# Altium integrated library Analog Devices Data Converters Digital-to-Analog Converters.IntLib: 2231 symbols (part 138 of 181)
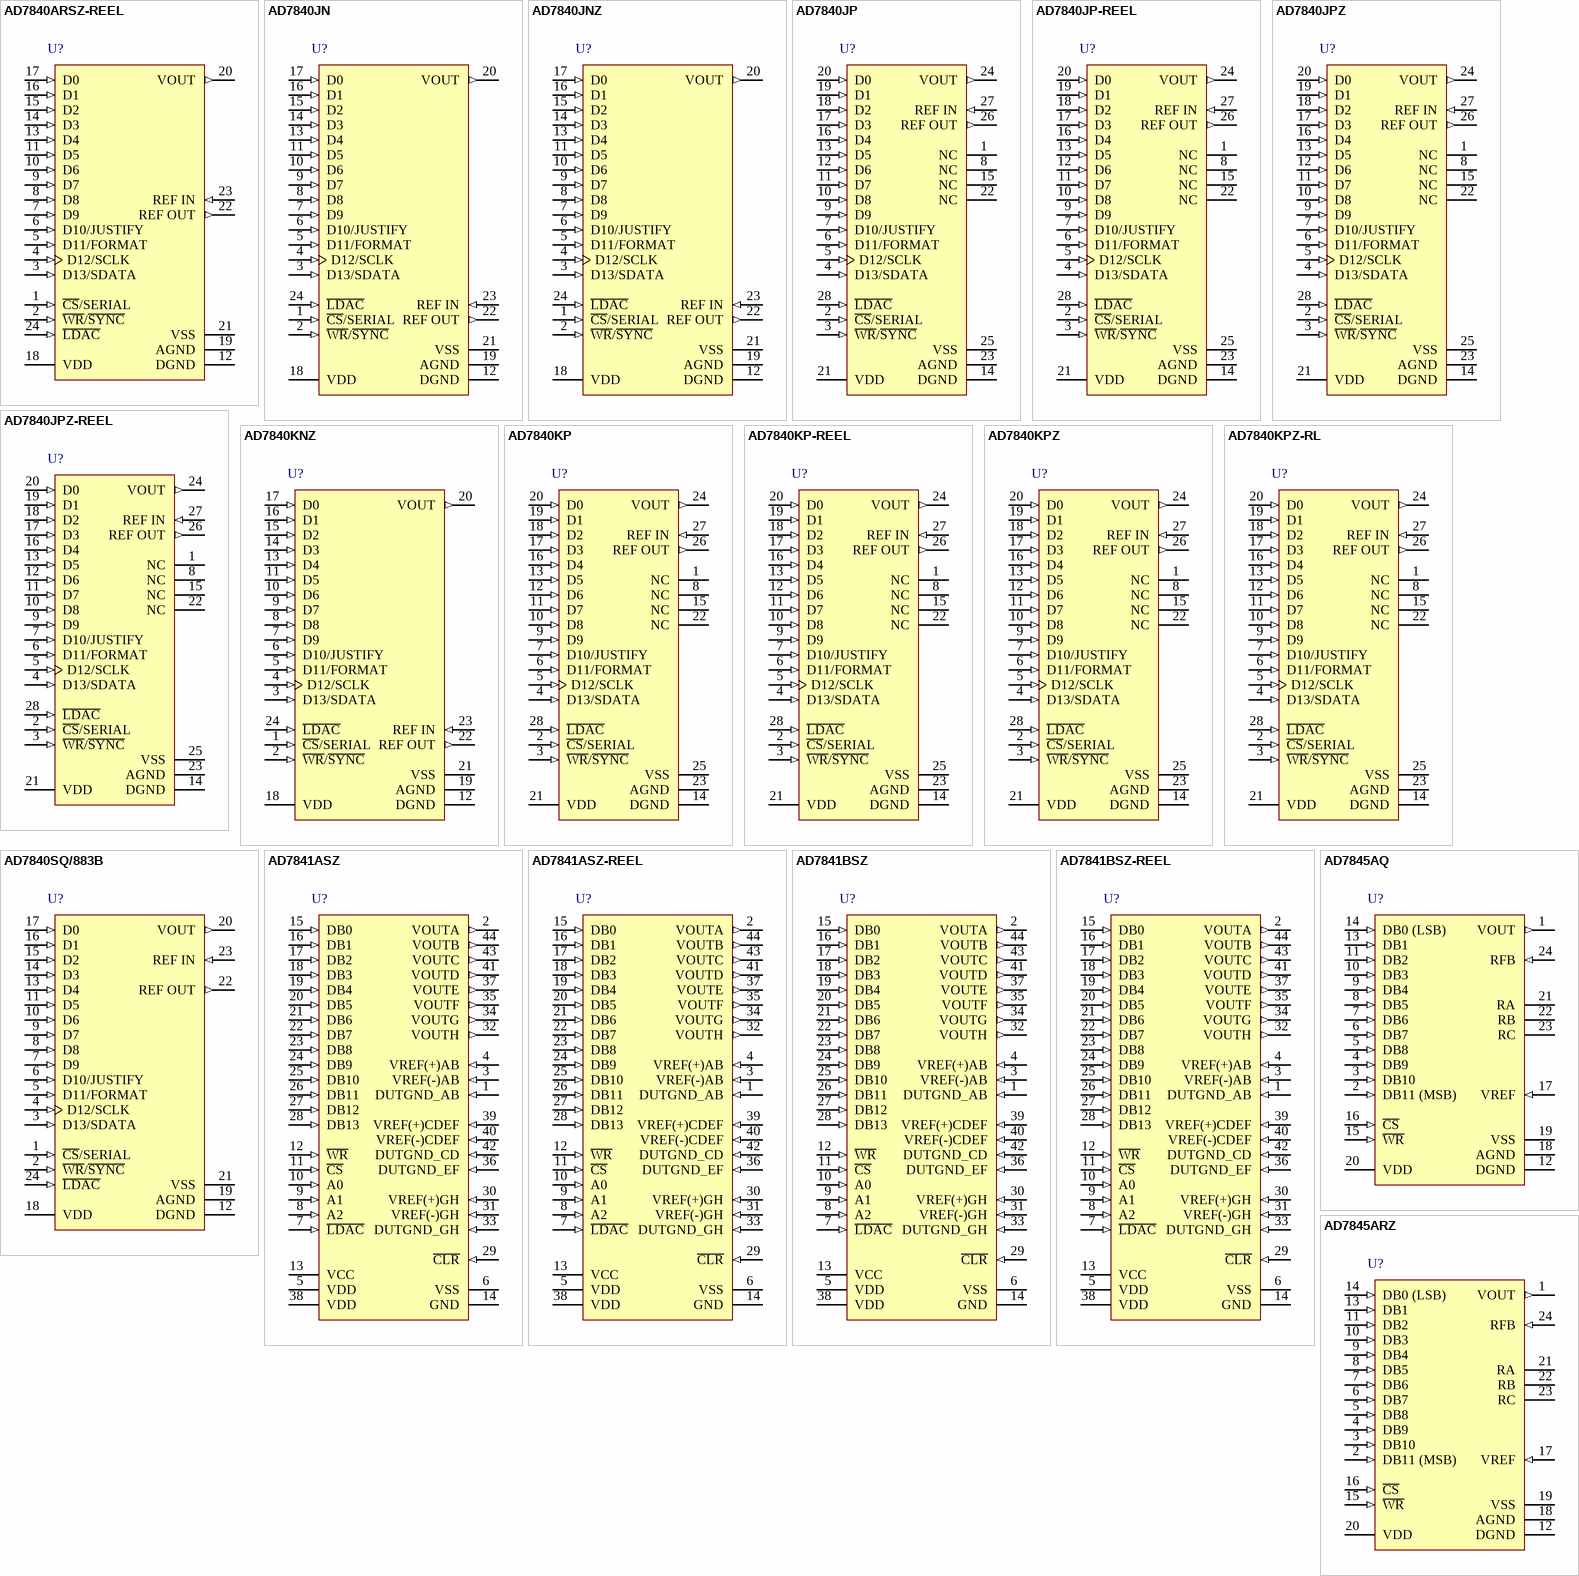
[diagram p251: symbols AD7840ARSZ-REEL to AD7845ARZ]

## AD7840JN
designator U?
Single 14-Bit LC2MOS Complete Digital-to-Analog Converter, 0 to +70 degC, N-24-1, Tube; Generic Part Number: AD7840; Manufacturer: Analog Devices; PartNumber: AD7840JN; # DAC Outputs: 1; Max V+: 5.25V; Op Pwr Diss: 110mW; Resolution (Bits): 14; Settling Time: 2.5µs; Single Supply: No; DatasheetVersion: Rev.B; PackageVersion: 071006-A; PackageReference: N-24-1; PackageDescription: 24-Lead Plastic Dual In-Line Package [PDIP] Narrow Body; Supplier 1: Digi-Key; Supplier Part Number 1: AD7840JN-ND; Supplier 2: Mouser; Supplier Part Number 2: 584-AD7840JN; Packing: Tube; RoHS: N; Mounting Technology: Through Hole; Code_JEDEC: MS-001; ComponentLink1Description: Manufacturer URL; ComponentLink1URL: http://www.analog.com/en/index.html; ComponentLink2Description: Datasheet; ComponentLink2URL: http://www.analog.com/static/imported-files/data_sheets/AD7840.pdf; ComponentLink3Description: Package Specification; ComponentLink3URL: http://www.analog.com/static/imported-files/packages/50726455539629N_24_1.pdf; ComponentLink4Description: Product URL; ComponentLink4URL: http://www.analog.com/en/digital-to-analog-converters/da-converters/ad7840/products/product.html
footprint N-24-1 (DIP, 24-Leads, Row Spacing 7.62mm, Pitch 2.54mm, Body 31.9x6.6mm)
pins: 1 ~{CS}/SERIAL (in) "Chip Select/Serial Input. When driven with normal logic levels, it is an active low logic input which is used in conjunction with W\R\ to load parallel data to the input latch. For applications where C\S\ is permanently low, (See Datasheet)", 2 ~{WR}/~{SYNC} (in) "Write/Frame Synchronization Input. In the parallel data mode, it is used in conjunction with C\S\ to load parallel data. In the serial mode of operation, this pin functions as a Frame Synchronization pulse with serial data (See Datasheet)", 3 D13/SDATA (in) "Data Bit 13(MSB)/Serial Data. When parallel data is selected, this pin is the D13 input. In serial mode, SDATA is the serial data input which is used in conjunction with S\Y\N\C\ and SCLK to transfer serial data to the (See Datasheet)", 4 D12/SCLK (in) "Data Bit 12/Serial Clock. When parallel data is selected, this pin is the D12 input. In the serial mode, it is the serial clock input. Serial data bits are latched on the falling edge of SCLK when S\Y\N\C\ is low.", 5 D11/FORMAT (in) "Data Bit 11/Data Format. When parallel data is selected, this pin is the D11 input. In serial mode, a Logic 1 on this input indicates that the MSB is the first valid bit in the serial data stream. A Logic 0 indicates that (See Datasheet)", 6 D10/JUSTIFY (in) "Data Bit 10/Data Justification. When parallel data is selected, this pin is the D10 input. In serial mode, this input controls the serial data justification (see Table I).", 7 D9 (in) "Data Bit 9. Parallel Data Input.", 8 D8 (in) "Data Bit 8. Parallel Data Input.", 9 D7 (in) "Data Bit 7. Parallel Data Input.", 10 D6 (in) "Data Bit 6. Parallel Data Input.", 11 D5 (in) "Data Bit 5. Parallel Data Input.", 12 DGND (power) "Digital Ground. Ground reference for digital circuitry.", 13 D4 (in) "Data Bit 4. Parallel Data Input.", 14 D3 (in) "Data Bit 3. Parallel Data Input.", 15 D2 (in) "Data Bit 2. Parallel Data Input.", 16 D1 (in) "Data Bit 1. Parallel Data Input.", 17 D0 (in) "Data Bit 0 (LSB). Parallel data input.", 18 VDD (power) "Positive Supply, +5 V +/- 5%.", 19 AGND (power) "Analog Ground. Ground reference for DAC, reference and output buffer amplifier.", 20 VOUT (out) "Analog Output Voltage. This is the buffer amplifier output voltage. Bipolar output range (+/-3 V with REF IN = +3 V).", 21 VSS (power) "Negative Supply Voltage, -5 V +/- 5%.", 22 REF OUT (out) "Voltage Reference Output. The internal 3 V analog reference is provided at this pin. To operate the AD7840 with internal reference, REF OUT should be connected to REF IN. The external load capability of the reference is 500 (See Datasheet)", 23 REF IN (in) "Voltage Reference Input. The reference voltage for the DAC is applied to this pin. It is internally buffered before being applied to the DAC. The nominal reference voltage for correct operation of the AD7840 is 3 V.", 24 ~{LDAC} (in) "Load DAC. Logic Input. A new word is loaded into the DAC latch from the input latch on the falling edge of this signal (see Interface Logic Information section). The AD7840 should be powered-up with L\D\A\C\ high. For (See Datasheet)"

## AD7840JNZ
designator U?
Single 14-Bit LC2MOS Complete Digital-to-Analog Converter, 0 to +70 degC, N-24-1, Pb-Free, Tube; Generic Part Number: AD7840; Manufacturer: Analog Devices; PartNumber: AD7840JNZ; # DAC Outputs: 1; Max V+: 5.25V; Op Pwr Diss: 110mW; Resolution (Bits): 14; Settling Time: 2.5µs; Single Supply: No; DatasheetVersion: Rev.B; PackageVersion: 071006-A; PackageReference: N-24-1; PackageDescription: 24-Lead Plastic Dual In-Line Package [PDIP] Narrow Body; Supplier 1: Digi-Key; Supplier Part Number 1: AD7840JNZ-ND; Supplier 2: Newark; Supplier Part Number 2: 59K5636; Supplier 3: Mouser; Supplier Part Number 3: 584-AD7840JNZ; Packing: Tube; RoHS: Y; Mounting Technology: Through Hole; Code_JEDEC: MS-001; ComponentLink1Description: Manufacturer URL; ComponentLink1URL: http://www.analog.com/en/index.html; ComponentLink2Description: Datasheet; ComponentLink2URL: http://www.analog.com/static/imported-files/data_sheets/AD7840.pdf; ComponentLink3Description: Package Specification; ComponentLink3URL: http://www.analog.com/static/imported-files/packages/50726455539629N_24_1.pdf; ComponentLink4Description: Product URL; ComponentLink4URL: http://www.analog.com/en/digital-to-analog-converters/da-converters/ad7840/products/product.html
footprint N-24-1 (DIP, 24-Leads, Row Spacing 7.62mm, Pitch 2.54mm, Body 31.9x6.6mm)
pins: 1 ~{CS}/SERIAL (in) "Chip Select/Serial Input. When driven with normal logic levels, it is an active low logic input which is used in conjunction with W\R\ to load parallel data to the input latch. For applications where C\S\ is permanently low, (See Datasheet)", 2 ~{WR}/~{SYNC} (in) "Write/Frame Synchronization Input. In the parallel data mode, it is used in conjunction with C\S\ to load parallel data. In the serial mode of operation, this pin functions as a Frame Synchronization pulse with serial data (See Datasheet)", 3 D13/SDATA (in) "Data Bit 13(MSB)/Serial Data. When parallel data is selected, this pin is the D13 input. In serial mode, SDATA is the serial data input which is used in conjunction with S\Y\N\C\ and SCLK to transfer serial data to the (See Datasheet)", 4 D12/SCLK (in) "Data Bit 12/Serial Clock. When parallel data is selected, this pin is the D12 input. In the serial mode, it is the serial clock input. Serial data bits are latched on the falling edge of SCLK when S\Y\N\C\ is low.", 5 D11/FORMAT (in) "Data Bit 11/Data Format. When parallel data is selected, this pin is the D11 input. In serial mode, a Logic 1 on this input indicates that the MSB is the first valid bit in the serial data stream. A Logic 0 indicates that (See Datasheet)", 6 D10/JUSTIFY (in) "Data Bit 10/Data Justification. When parallel data is selected, this pin is the D10 input. In serial mode, this input controls the serial data justification (see Table I).", 7 D9 (in) "Data Bit 9. Parallel Data Input.", 8 D8 (in) "Data Bit 8. Parallel Data Input.", 9 D7 (in) "Data Bit 7. Parallel Data Input.", 10 D6 (in) "Data Bit 6. Parallel Data Input.", 11 D5 (in) "Data Bit 5. Parallel Data Input.", 12 DGND (power) "Digital Ground. Ground reference for digital circuitry.", 13 D4 (in) "Data Bit 4. Parallel Data Input.", 14 D3 (in) "Data Bit 3. Parallel Data Input.", 15 D2 (in) "Data Bit 2. Parallel Data Input.", 16 D1 (in) "Data Bit 1. Parallel Data Input.", 17 D0 (in) "Data Bit 0 (LSB). Parallel data input.", 18 VDD (power) "Positive Supply, +5 V +/- 5%.", 19 AGND (power) "Analog Ground. Ground reference for DAC, reference and output buffer amplifier.", 20 VOUT (out) "Analog Output Voltage. This is the buffer amplifier output voltage. Bipolar output range (+/-3 V with REF IN = +3 V).", 21 VSS (power) "Negative Supply Voltage, -5 V +/- 5%.", 22 REF OUT (out) "Voltage Reference Output. The internal 3 V analog reference is provided at this pin. To operate the AD7840 with internal reference, REF OUT should be connected to REF IN. The external load capability of the reference is 500 (See Datasheet)", 23 REF IN (in) "Voltage Reference Input. The reference voltage for the DAC is applied to this pin. It is internally buffered before being applied to the DAC. The nominal reference voltage for correct operation of the AD7840 is 3 V.", 24 ~{LDAC} (in) "Load DAC. Logic Input. A new word is loaded into the DAC latch from the input latch on the falling edge of this signal (see Interface Logic Information section). The AD7840 should be powered-up with L\D\A\C\ high. For (See Datasheet)"

## AD7840JP
designator U?
Single 14-Bit LC2MOS Complete Digital-to-Analog Converter, 0 to +70 degC, P-28, Tube; Generic Part Number: AD7840; Manufacturer: Analog Devices; PartNumber: AD7840JP; # DAC Outputs: 1; Max V+: 5.25V; Op Pwr Diss: 110mW; Resolution (Bits): 14; Settling Time: 2.5µs; Single Supply: No; DatasheetVersion: Rev.B; PackageVersion: 042508-A; PackageReference: P-28; PackageDescription: 28-Lead Plastic Leaded Chip Carrier [PLCC]; Supplier 1: Digi-Key; Supplier Part Number 1: AD7840JP-ND; Supplier 2: Mouser; Supplier Part Number 2: 584-AD7840JP; Packing: Tube; RoHS: N; Mounting Technology: Surface Mount; Code_JEDEC: MO-047-AB; ComponentLink1Description: Manufacturer URL; ComponentLink1URL: http://www.analog.com/en/index.html; ComponentLink2Description: Datasheet; ComponentLink2URL: http://www.analog.com/static/imported-files/data_sheets/AD7840.pdf; ComponentLink3Description: Package Specification; ComponentLink3URL: http://www.analog.com/static/imported-files/packages/PKG_PDF/PLCC(P)/P_28.pdf; ComponentLink4Description: Product URL; ComponentLink4URL: http://www.analog.com/en/digital-to-analog-converters/da-converters/ad7840/products/product.html
footprint P-28_N (Leaded Chip Carrier, 28-Leads, Body 11.5x11.5mm, Pitch 1.27mm, IPC Medium Density)
footprint P-28_L (Leaded Chip Carrier, 28-Leads, Body 11.5x11.5mm, Pitch 1.27mm, IPC High Density)
footprint P-28_M (Leaded Chip Carrier, 28-Leads, Body 11.5x11.5mm, Pitch 1.27mm, IPC Low Density)
pins: 1 NC "No Connect.", 2 ~{CS}/SERIAL (in) "Chip Select/Serial Input. When driven with normal logic levels, it is an active low logic input which is used in conjunction with W\R\ to load parallel data to the input latch. For applications where C\S\ is permanently low, (See Datasheet)", 3 ~{WR}/~{SYNC} (in) "Write/Frame Synchronization Input. In the parallel data mode, it is used in conjunction with C\S\ to load parallel data. In the serial mode of operation, this pin functions as a Frame Synchronization pulse with serial data (See Datasheet)", 4 D13/SDATA (in) "Data Bit 13(MSB)/Serial Data. When parallel data is selected, this pin is the D13 input. In serial mode, SDATA is the serial data input which is used in conjunction with S\Y\N\C\ and SCLK to transfer serial data to the (See Datasheet)", 5 D12/SCLK (in) "Data Bit 12/Serial Clock. When parallel data is selected, this pin is the D12 input. In the serial mode, it is the serial clock input. Serial data bits are latched on the falling edge of SCLK when S\Y\N\C\ is low", 6 D11/FORMAT (in) "Data Bit 11/Data Format. When parallel data is selected, this pin is the D11 input. In serial mode, a Logic 1 on this input indicates that the MSB is the first valid bit in the serial data stream. A Logic 0 indicates that (See Datasheet)", 7 D10/JUSTIFY (in) "Data Bit 10/Data Justification. When parallel data is selected, this pin is the D10 input. In serial mode, this input controls the serial data justification (see Table I).", 8 NC "No Connect.", 9 D9 (in) "Data Bit 9. Parallel data input.", 10 D8 (in) "Data Bit 8. Parallel data input.", 11 D7 (in) "Data Bit 7. Parallel data input.", 12 D6 (in) "Data Bit 6. Parallel data input.", 13 D5 (in) "Data Bit 5. Parallel data input.", 14 DGND (power) "Digital Ground. Ground reference for digital circuitry.", 15 NC "No Connect.", 16 D4 (in) "Data Bit 4. Parallel data input.", 17 D3 (in) "Data Bit 3. Parallel data input.", 18 D2 (in) "Data Bit 2. Parallel data input.", 19 D1 (in) "Data Bit 1. Parallel data input.", 20 D0 (in) "Data Bit 0 (LSB). Parallel data input.", 21 VDD (power) "Positive Supply, +5 V +/- 5%.", 22 NC "No Connect.", 23 AGND (power) "Analog Ground. Ground reference for DAC, reference and output buffer amplifier.", 24 VOUT (out) "Analog Output Voltage. This is the buffer amplifier output voltage. Bipolar output range (+/-3 V with REF IN = +3 V).", 25 VSS (power) "Negative Supply Voltage, -5 V +/- 5%.", 26 REF OUT (out) "Voltage Reference Output. The internal 3 V analog reference is provided at this pin. To operate the AD7840 with internal reference, REF OUT should be connected to REF IN. The external load capability of the reference is 500 (See Datasheet)", 27 REF IN (in) "Voltage Reference Input. The reference voltage for the DAC is applied to this pin. It is internally buffered before being applied to the DAC. The nominal reference voltage for correct operation of the AD7840 is 3 V.", 28 ~{LDAC} (in) "Load DAC. Logic Input. A new word is loaded into the DAC latch from the input latch on the falling edge of this signal (see Interface Logic Information section). The AD7840 should be powered-up with L\D\A\C\ high. For (See Datasheet)"

## AD7840JP-REEL
designator U?
Single 14-Bit LC2MOS Complete Digital-to-Analog Converter, 0 to +70 degC, P-28, Reel; Generic Part Number: AD7840; Manufacturer: Analog Devices; PartNumber: AD7840JP-REEL; # DAC Outputs: 1; Max V+: 5.25V; Op Pwr Diss: 110mW; Resolution (Bits): 14; Settling Time: 2.5µs; Single Supply: No; DatasheetVersion: Rev.B; PackageVersion: 042508-A; PackageReference: P-28; PackageDescription: 28-Lead Plastic Leaded Chip Carrier [PLCC]; Supplier 1: Mouser; Supplier Part Number 1: N/A; Packing: Reel; RoHS: N; Mounting Technology: Surface Mount; Code_JEDEC: MO-047-AB; ComponentLink1Description: Manufacturer URL; ComponentLink1URL: http://www.analog.com/en/index.html; ComponentLink2Description: Datasheet; ComponentLink2URL: http://www.analog.com/static/imported-files/data_sheets/AD7840.pdf; ComponentLink3Description: Package Specification; ComponentLink3URL: http://www.analog.com/static/imported-files/packages/PKG_PDF/PLCC(P)/P_28.pdf; ComponentLink4Description: Product URL; ComponentLink4URL: http://www.analog.com/en/digital-to-analog-converters/da-converters/ad7840/products/product.html
footprint P-28_N (Leaded Chip Carrier, 28-Leads, Body 11.5x11.5mm, Pitch 1.27mm, IPC Medium Density)
footprint P-28_L (Leaded Chip Carrier, 28-Leads, Body 11.5x11.5mm, Pitch 1.27mm, IPC High Density)
footprint P-28_M (Leaded Chip Carrier, 28-Leads, Body 11.5x11.5mm, Pitch 1.27mm, IPC Low Density)
pins: 1 NC "No Connect.", 2 ~{CS}/SERIAL (in) "Chip Select/Serial Input. When driven with normal logic levels, it is an active low logic input which is used in conjunction with W\R\ to load parallel data to the input latch. For applications where C\S\ is permanently low, (See Datasheet)", 3 ~{WR}/~{SYNC} (in) "Write/Frame Synchronization Input. In the parallel data mode, it is used in conjunction with C\S\ to load parallel data. In the serial mode of operation, this pin functions as a Frame Synchronization pulse with serial data (See Datasheet)", 4 D13/SDATA (in) "Data Bit 13(MSB)/Serial Data. When parallel data is selected, this pin is the D13 input. In serial mode, SDATA is the serial data input which is used in conjunction with S\Y\N\C\ and SCLK to transfer serial data to the (See Datasheet)", 5 D12/SCLK (in) "Data Bit 12/Serial Clock. When parallel data is selected, this pin is the D12 input. In the serial mode, it is the serial clock input. Serial data bits are latched on the falling edge of SCLK when S\Y\N\C\ is low", 6 D11/FORMAT (in) "Data Bit 11/Data Format. When parallel data is selected, this pin is the D11 input. In serial mode, a Logic 1 on this input indicates that the MSB is the first valid bit in the serial data stream. A Logic 0 indicates that (See Datasheet)", 7 D10/JUSTIFY (in) "Data Bit 10/Data Justification. When parallel data is selected, this pin is the D10 input. In serial mode, this input controls the serial data justification (see Table I).", 8 NC "No Connect.", 9 D9 (in) "Data Bit 9. Parallel data input.", 10 D8 (in) "Data Bit 8. Parallel data input.", 11 D7 (in) "Data Bit 7. Parallel data input.", 12 D6 (in) "Data Bit 6. Parallel data input.", 13 D5 (in) "Data Bit 5. Parallel data input.", 14 DGND (power) "Digital Ground. Ground reference for digital circuitry.", 15 NC "No Connect.", 16 D4 (in) "Data Bit 4. Parallel data input.", 17 D3 (in) "Data Bit 3. Parallel data input.", 18 D2 (in) "Data Bit 2. Parallel data input.", 19 D1 (in) "Data Bit 1. Parallel data input.", 20 D0 (in) "Data Bit 0 (LSB). Parallel data input.", 21 VDD (power) "Positive Supply, +5 V +/- 5%.", 22 NC "No Connect.", 23 AGND (power) "Analog Ground. Ground reference for DAC, reference and output buffer amplifier.", 24 VOUT (out) "Analog Output Voltage. This is the buffer amplifier output voltage. Bipolar output range (+/-3 V with REF IN = +3 V).", 25 VSS (power) "Negative Supply Voltage, -5 V +/- 5%.", 26 REF OUT (out) "Voltage Reference Output. The internal 3 V analog reference is provided at this pin. To operate the AD7840 with internal reference, REF OUT should be connected to REF IN. The external load capability of the reference is 500 (See Datasheet)", 27 REF IN (in) "Voltage Reference Input. The reference voltage for the DAC is applied to this pin. It is internally buffered before being applied to the DAC. The nominal reference voltage for correct operation of the AD7840 is 3 V.", 28 ~{LDAC} (in) "Load DAC. Logic Input. A new word is loaded into the DAC latch from the input latch on the falling edge of this signal (see Interface Logic Information section). The AD7840 should be powered-up with L\D\A\C\ high. For (See Datasheet)"

## AD7840JPZ
designator U?
Single 14-Bit LC2MOS Complete Digital-to-Analog Converter, 0 to +70 degC, P-28, Pb-Free, Tube; Generic Part Number: AD7840; Manufacturer: Analog Devices; PartNumber: AD7840JPZ; # DAC Outputs: 1; Max V+: 5.25V; Op Pwr Diss: 110mW; Resolution (Bits): 14; Settling Time: 2.5µs; Single Supply: No; DatasheetVersion: Rev.B; PackageVersion: 042508-A; PackageReference: P-28; PackageDescription: 28-Lead Plastic Leaded Chip Carrier [PLCC]; Supplier 1: Digi-Key; Supplier Part Number 1: AD7840JPZ-ND; Supplier 2: Newark; Supplier Part Number 2: 96K2105; Supplier 3: Mouser; Supplier Part Number 3: 584-AD7840JPZ; Packing: Tube; RoHS: Y; Mounting Technology: Surface Mount; Code_JEDEC: MO-047-AB; ComponentLink1Description: Manufacturer URL; ComponentLink1URL: http://www.analog.com/en/index.html; ComponentLink2Description: Datasheet; ComponentLink2URL: http://www.analog.com/static/imported-files/data_sheets/AD7840.pdf; ComponentLink3Description: Package Specification; ComponentLink3URL: http://www.analog.com/static/imported-files/packages/PKG_PDF/PLCC(P)/P_28.pdf; ComponentLink4Description: Product URL; ComponentLink4URL: http://www.analog.com/en/digital-to-analog-converters/da-converters/ad7840/products/product.html
footprint P-28_N (Leaded Chip Carrier, 28-Leads, Body 11.5x11.5mm, Pitch 1.27mm, IPC Medium Density)
footprint P-28_L (Leaded Chip Carrier, 28-Leads, Body 11.5x11.5mm, Pitch 1.27mm, IPC High Density)
footprint P-28_M (Leaded Chip Carrier, 28-Leads, Body 11.5x11.5mm, Pitch 1.27mm, IPC Low Density)
pins: 1 NC "No Connect.", 2 ~{CS}/SERIAL (in) "Chip Select/Serial Input. When driven with normal logic levels, it is an active low logic input which is used in conjunction with W\R\ to load parallel data to the input latch. For applications where C\S\ is permanently low, (See Datasheet)", 3 ~{WR}/~{SYNC} (in) "Write/Frame Synchronization Input. In the parallel data mode, it is used in conjunction with C\S\ to load parallel data. In the serial mode of operation, this pin functions as a Frame Synchronization pulse with serial data (See Datasheet)", 4 D13/SDATA (in) "Data Bit 13(MSB)/Serial Data. When parallel data is selected, this pin is the D13 input. In serial mode, SDATA is the serial data input which is used in conjunction with S\Y\N\C\ and SCLK to transfer serial data to the (See Datasheet)", 5 D12/SCLK (in) "Data Bit 12/Serial Clock. When parallel data is selected, this pin is the D12 input. In the serial mode, it is the serial clock input. Serial data bits are latched on the falling edge of SCLK when S\Y\N\C\ is low", 6 D11/FORMAT (in) "Data Bit 11/Data Format. When parallel data is selected, this pin is the D11 input. In serial mode, a Logic 1 on this input indicates that the MSB is the first valid bit in the serial data stream. A Logic 0 indicates that (See Datasheet)", 7 D10/JUSTIFY (in) "Data Bit 10/Data Justification. When parallel data is selected, this pin is the D10 input. In serial mode, this input controls the serial data justification (see Table I).", 8 NC "No Connect.", 9 D9 (in) "Data Bit 9. Parallel data input.", 10 D8 (in) "Data Bit 8. Parallel data input.", 11 D7 (in) "Data Bit 7. Parallel data input.", 12 D6 (in) "Data Bit 6. Parallel data input.", 13 D5 (in) "Data Bit 5. Parallel data input.", 14 DGND (power) "Digital Ground. Ground reference for digital circuitry.", 15 NC "No Connect.", 16 D4 (in) "Data Bit 4. Parallel data input.", 17 D3 (in) "Data Bit 3. Parallel data input.", 18 D2 (in) "Data Bit 2. Parallel data input.", 19 D1 (in) "Data Bit 1. Parallel data input.", 20 D0 (in) "Data Bit 0 (LSB). Parallel data input.", 21 VDD (power) "Positive Supply, +5 V +/- 5%.", 22 NC "No Connect.", 23 AGND (power) "Analog Ground. Ground reference for DAC, reference and output buffer amplifier.", 24 VOUT (out) "Analog Output Voltage. This is the buffer amplifier output voltage. Bipolar output range (+/-3 V with REF IN = +3 V).", 25 VSS (power) "Negative Supply Voltage, -5 V +/- 5%.", 26 REF OUT (out) "Voltage Reference Output. The internal 3 V analog reference is provided at this pin. To operate the AD7840 with internal reference, REF OUT should be connected to REF IN. The external load capability of the reference is 500 (See Datasheet)", 27 REF IN (in) "Voltage Reference Input. The reference voltage for the DAC is applied to this pin. It is internally buffered before being applied to the DAC. The nominal reference voltage for correct operation of the AD7840 is 3 V.", 28 ~{LDAC} (in) "Load DAC. Logic Input. A new word is loaded into the DAC latch from the input latch on the falling edge of this signal (see Interface Logic Information section). The AD7840 should be powered-up with L\D\A\C\ high. For (See Datasheet)"

## AD7840JPZ-REEL
designator U?
Single 14-Bit LC2MOS Complete Digital-to-Analog Converter, 0 to +70 degC, P-28, Pb-Free, Reel; Generic Part Number: AD7840; Manufacturer: Analog Devices; PartNumber: AD7840JPZ-REEL; # DAC Outputs: 1; Max V+: 5.25V; Op Pwr Diss: 110mW; Resolution (Bits): 14; Settling Time: 2.5µs; Single Supply: No; DatasheetVersion: Rev.B; PackageVersion: 042508-A; PackageReference: P-28; PackageDescription: 28-Lead Plastic Leaded Chip Carrier [PLCC]; Supplier 1: Digi-Key; Supplier Part Number 1: AD7840JPZ-REEL-ND; Supplier 2: Mouser; Supplier Part Number 2: 584-AD7840JPZ-R; Packing: Reel; RoHS: Y; Mounting Technology: Surface Mount; Code_JEDEC: MO-047-AB; ComponentLink1Description: Manufacturer URL; ComponentLink1URL: http://www.analog.com/en/index.html; ComponentLink2Description: Datasheet; ComponentLink2URL: http://www.analog.com/static/imported-files/data_sheets/AD7840.pdf; ComponentLink3Description: Package Specification; ComponentLink3URL: http://www.analog.com/static/imported-files/packages/PKG_PDF/PLCC(P)/P_28.pdf; ComponentLink4Description: Product URL; ComponentLink4URL: http://www.analog.com/en/digital-to-analog-converters/da-converters/ad7840/products/product.html
footprint P-28_N (Leaded Chip Carrier, 28-Leads, Body 11.5x11.5mm, Pitch 1.27mm, IPC Medium Density)
footprint P-28_L (Leaded Chip Carrier, 28-Leads, Body 11.5x11.5mm, Pitch 1.27mm, IPC High Density)
footprint P-28_M (Leaded Chip Carrier, 28-Leads, Body 11.5x11.5mm, Pitch 1.27mm, IPC Low Density)
pins: 1 NC "No Connect.", 2 ~{CS}/SERIAL (in) "Chip Select/Serial Input. When driven with normal logic levels, it is an active low logic input which is used in conjunction with W\R\ to load parallel data to the input latch. For applications where C\S\ is permanently low, (See Datasheet)", 3 ~{WR}/~{SYNC} (in) "Write/Frame Synchronization Input. In the parallel data mode, it is used in conjunction with C\S\ to load parallel data. In the serial mode of operation, this pin functions as a Frame Synchronization pulse with serial data (See Datasheet)", 4 D13/SDATA (in) "Data Bit 13(MSB)/Serial Data. When parallel data is selected, this pin is the D13 input. In serial mode, SDATA is the serial data input which is used in conjunction with S\Y\N\C\ and SCLK to transfer serial data to the (See Datasheet)", 5 D12/SCLK (in) "Data Bit 12/Serial Clock. When parallel data is selected, this pin is the D12 input. In the serial mode, it is the serial clock input. Serial data bits are latched on the falling edge of SCLK when S\Y\N\C\ is low", 6 D11/FORMAT (in) "Data Bit 11/Data Format. When parallel data is selected, this pin is the D11 input. In serial mode, a Logic 1 on this input indicates that the MSB is the first valid bit in the serial data stream. A Logic 0 indicates that (See Datasheet)", 7 D10/JUSTIFY (in) "Data Bit 10/Data Justification. When parallel data is selected, this pin is the D10 input. In serial mode, this input controls the serial data justification (see Table I).", 8 NC "No Connect.", 9 D9 (in) "Data Bit 9. Parallel data input.", 10 D8 (in) "Data Bit 8. Parallel data input.", 11 D7 (in) "Data Bit 7. Parallel data input.", 12 D6 (in) "Data Bit 6. Parallel data input.", 13 D5 (in) "Data Bit 5. Parallel data input.", 14 DGND (power) "Digital Ground. Ground reference for digital circuitry.", 15 NC "No Connect.", 16 D4 (in) "Data Bit 4. Parallel data input.", 17 D3 (in) "Data Bit 3. Parallel data input.", 18 D2 (in) "Data Bit 2. Parallel data input.", 19 D1 (in) "Data Bit 1. Parallel data input.", 20 D0 (in) "Data Bit 0 (LSB). Parallel data input.", 21 VDD (power) "Positive Supply, +5 V +/- 5%.", 22 NC "No Connect.", 23 AGND (power) "Analog Ground. Ground reference for DAC, reference and output buffer amplifier.", 24 VOUT (out) "Analog Output Voltage. This is the buffer amplifier output voltage. Bipolar output range (+/-3 V with REF IN = +3 V).", 25 VSS (power) "Negative Supply Voltage, -5 V +/- 5%.", 26 REF OUT (out) "Voltage Reference Output. The internal 3 V analog reference is provided at this pin. To operate the AD7840 with internal reference, REF OUT should be connected to REF IN. The external load capability of the reference is 500 (See Datasheet)", 27 REF IN (in) "Voltage Reference Input. The reference voltage for the DAC is applied to this pin. It is internally buffered before being applied to the DAC. The nominal reference voltage for correct operation of the AD7840 is 3 V.", 28 ~{LDAC} (in) "Load DAC. Logic Input. A new word is loaded into the DAC latch from the input latch on the falling edge of this signal (see Interface Logic Information section). The AD7840 should be powered-up with L\D\A\C\ high. For (See Datasheet)"

## AD7840KNZ
designator U?
Single 14-Bit LC2MOS Complete Digital-to-Analog Converter, 0 to +70 degC, N-24-1, Pb-Free, Tube; Generic Part Number: AD7840; Manufacturer: Analog Devices; PartNumber: AD7840KNZ; # DAC Outputs: 1; Max V+: 5.25V; Op Pwr Diss: 110mW; Resolution (Bits): 14; Settling Time: 2.5µs; Single Supply: No; DatasheetVersion: Rev.B; PackageVersion: 071006-A; PackageReference: N-24-1; PackageDescription: 24-Lead Plastic Dual In-Line Package [PDIP] Narrow Body; Supplier 1: Digi-Key; Supplier Part Number 1: AD7840KNZ-ND; Supplier 2: Mouser; Supplier Part Number 2: 584-AD7840KNZ; Packing: Tube; RoHS: Y; Mounting Technology: Through Hole; Code_JEDEC: MS-001; ComponentLink1Description: Manufacturer URL; ComponentLink1URL: http://www.analog.com/en/index.html; ComponentLink2Description: Datasheet; ComponentLink2URL: http://www.analog.com/static/imported-files/data_sheets/AD7840.pdf; ComponentLink3Description: Package Specification; ComponentLink3URL: http://www.analog.com/static/imported-files/packages/50726455539629N_24_1.pdf; ComponentLink4Description: Product URL; ComponentLink4URL: http://www.analog.com/en/digital-to-analog-converters/da-converters/ad7840/products/product.html
footprint N-24-1 (DIP, 24-Leads, Row Spacing 7.62mm, Pitch 2.54mm, Body 31.9x6.6mm)
pins: 1 ~{CS}/SERIAL (in) "Chip Select/Serial Input. When driven with normal logic levels, it is an active low logic input which is used in conjunction with W\R\ to load parallel data to the input latch. For applications where C\S\ is permanently low, (See Datasheet)", 2 ~{WR}/~{SYNC} (in) "Write/Frame Synchronization Input. In the parallel data mode, it is used in conjunction with C\S\ to load parallel data. In the serial mode of operation, this pin functions as a Frame Synchronization pulse with serial data (See Datasheet)", 3 D13/SDATA (in) "Data Bit 13(MSB)/Serial Data. When parallel data is selected, this pin is the D13 input. In serial mode, SDATA is the serial data input which is used in conjunction with S\Y\N\C\ and SCLK to transfer serial data to the (See Datasheet)", 4 D12/SCLK (in) "Data Bit 12/Serial Clock. When parallel data is selected, this pin is the D12 input. In the serial mode, it is the serial clock input. Serial data bits are latched on the falling edge of SCLK when S\Y\N\C\ is low.", 5 D11/FORMAT (in) "Data Bit 11/Data Format. When parallel data is selected, this pin is the D11 input. In serial mode, a Logic 1 on this input indicates that the MSB is the first valid bit in the serial data stream. A Logic 0 indicates that (See Datasheet)", 6 D10/JUSTIFY (in) "Data Bit 10/Data Justification. When parallel data is selected, this pin is the D10 input. In serial mode, this input controls the serial data justification (see Table I).", 7 D9 (in) "Data Bit 9. Parallel Data Input.", 8 D8 (in) "Data Bit 8. Parallel Data Input.", 9 D7 (in) "Data Bit 7. Parallel Data Input.", 10 D6 (in) "Data Bit 6. Parallel Data Input.", 11 D5 (in) "Data Bit 5. Parallel Data Input.", 12 DGND (power) "Digital Ground. Ground reference for digital circuitry.", 13 D4 (in) "Data Bit 4. Parallel Data Input.", 14 D3 (in) "Data Bit 3. Parallel Data Input.", 15 D2 (in) "Data Bit 2. Parallel Data Input.", 16 D1 (in) "Data Bit 1. Parallel Data Input.", 17 D0 (in) "Data Bit 0 (LSB). Parallel data input.", 18 VDD (power) "Positive Supply, +5 V +/- 5%.", 19 AGND (power) "Analog Ground. Ground reference for DAC, reference and output buffer amplifier.", 20 VOUT (out) "Analog Output Voltage. This is the buffer amplifier output voltage. Bipolar output range (+/-3 V with REF IN = +3 V).", 21 VSS (power) "Negative Supply Voltage, -5 V +/- 5%.", 22 REF OUT (out) "Voltage Reference Output. The internal 3 V analog reference is provided at this pin. To operate the AD7840 with internal reference, REF OUT should be connected to REF IN. The external load capability of the reference is 500 (See Datasheet)", 23 REF IN (in) "Voltage Reference Input. The reference voltage for the DAC is applied to this pin. It is internally buffered before being applied to the DAC. The nominal reference voltage for correct operation of the AD7840 is 3 V.", 24 ~{LDAC} (in) "Load DAC. Logic Input. A new word is loaded into the DAC latch from the input latch on the falling edge of this signal (see Interface Logic Information section). The AD7840 should be powered-up with L\D\A\C\ high. For (See Datasheet)"

## AD7840KP
designator U?
Single 14-Bit LC2MOS Complete Digital-to-Analog Converter, 0 to +70 degC, P-28, Tube; Generic Part Number: AD7840; Manufacturer: Analog Devices; PartNumber: AD7840KP; # DAC Outputs: 1; Max V+: 5.25V; Op Pwr Diss: 110mW; Resolution (Bits): 14; Settling Time: 2.5µs; Single Supply: No; DatasheetVersion: Rev.B; PackageVersion: 042508-A; PackageReference: P-28; PackageDescription: 28-Lead Plastic Leaded Chip Carrier [PLCC]; Supplier 1: Digi-Key; Supplier Part Number 1: AD7840KP-ND; Supplier 2: Mouser; Supplier Part Number 2: 584-AD7840KP; Packing: Tube; RoHS: N; Mounting Technology: Surface Mount; Code_JEDEC: MO-047-AB; ComponentLink1Description: Manufacturer URL; ComponentLink1URL: http://www.analog.com/en/index.html; ComponentLink2Description: Datasheet; ComponentLink2URL: http://www.analog.com/static/imported-files/data_sheets/AD7840.pdf; ComponentLink3Description: Package Specification; ComponentLink3URL: http://www.analog.com/static/imported-files/packages/PKG_PDF/PLCC(P)/P_28.pdf; ComponentLink4Description: Product URL; ComponentLink4URL: http://www.analog.com/en/digital-to-analog-converters/da-converters/ad7840/products/product.html
footprint P-28_N (Leaded Chip Carrier, 28-Leads, Body 11.5x11.5mm, Pitch 1.27mm, IPC Medium Density)
footprint P-28_L (Leaded Chip Carrier, 28-Leads, Body 11.5x11.5mm, Pitch 1.27mm, IPC High Density)
footprint P-28_M (Leaded Chip Carrier, 28-Leads, Body 11.5x11.5mm, Pitch 1.27mm, IPC Low Density)
pins: 1 NC "No Connect.", 2 ~{CS}/SERIAL (in) "Chip Select/Serial Input. When driven with normal logic levels, it is an active low logic input which is used in conjunction with W\R\ to load parallel data to the input latch. For applications where C\S\ is permanently low, (See Datasheet)", 3 ~{WR}/~{SYNC} (in) "Write/Frame Synchronization Input. In the parallel data mode, it is used in conjunction with C\S\ to load parallel data. In the serial mode of operation, this pin functions as a Frame Synchronization pulse with serial data (See Datasheet)", 4 D13/SDATA (in) "Data Bit 13(MSB)/Serial Data. When parallel data is selected, this pin is the D13 input. In serial mode, SDATA is the serial data input which is used in conjunction with S\Y\N\C\ and SCLK to transfer serial data to the (See Datasheet)", 5 D12/SCLK (in) "Data Bit 12/Serial Clock. When parallel data is selected, this pin is the D12 input. In the serial mode, it is the serial clock input. Serial data bits are latched on the falling edge of SCLK when S\Y\N\C\ is low", 6 D11/FORMAT (in) "Data Bit 11/Data Format. When parallel data is selected, this pin is the D11 input. In serial mode, a Logic 1 on this input indicates that the MSB is the first valid bit in the serial data stream. A Logic 0 indicates that (See Datasheet)", 7 D10/JUSTIFY (in) "Data Bit 10/Data Justification. When parallel data is selected, this pin is the D10 input. In serial mode, this input controls the serial data justification (see Table I).", 8 NC "No Connect.", 9 D9 (in) "Data Bit 9. Parallel data input.", 10 D8 (in) "Data Bit 8. Parallel data input.", 11 D7 (in) "Data Bit 7. Parallel data input.", 12 D6 (in) "Data Bit 6. Parallel data input.", 13 D5 (in) "Data Bit 5. Parallel data input.", 14 DGND (power) "Digital Ground. Ground reference for digital circuitry.", 15 NC "No Connect.", 16 D4 (in) "Data Bit 4. Parallel data input.", 17 D3 (in) "Data Bit 3. Parallel data input.", 18 D2 (in) "Data Bit 2. Parallel data input.", 19 D1 (in) "Data Bit 1. Parallel data input.", 20 D0 (in) "Data Bit 0 (LSB). Parallel data input.", 21 VDD (power) "Positive Supply, +5 V +/- 5%.", 22 NC "No Connect.", 23 AGND (power) "Analog Ground. Ground reference for DAC, reference and output buffer amplifier.", 24 VOUT (out) "Analog Output Voltage. This is the buffer amplifier output voltage. Bipolar output range (+/-3 V with REF IN = +3 V).", 25 VSS (power) "Negative Supply Voltage, -5 V +/- 5%.", 26 REF OUT (out) "Voltage Reference Output. The internal 3 V analog reference is provided at this pin. To operate the AD7840 with internal reference, REF OUT should be connected to REF IN. The external load capability of the reference is 500 (See Datasheet)", 27 REF IN (in) "Voltage Reference Input. The reference voltage for the DAC is applied to this pin. It is internally buffered before being applied to the DAC. The nominal reference voltage for correct operation of the AD7840 is 3 V.", 28 ~{LDAC} (in) "Load DAC. Logic Input. A new word is loaded into the DAC latch from the input latch on the falling edge of this signal (see Interface Logic Information section). The AD7840 should be powered-up with L\D\A\C\ high. For (See Datasheet)"

## AD7840KP-REEL
designator U?
Single 14-Bit LC2MOS Complete Digital-to-Analog Converter, 0 to +70 degC, P-28, Reel; Generic Part Number: AD7840; Manufacturer: Analog Devices; PartNumber: AD7840KP-REEL; # DAC Outputs: 1; Max V+: 5.25V; Op Pwr Diss: 110mW; Resolution (Bits): 14; Settling Time: 2.5µs; Single Supply: No; DatasheetVersion: Rev.B; PackageVersion: 042508-A; PackageReference: P-28; PackageDescription: 28-Lead Plastic Leaded Chip Carrier [PLCC]; Supplier 1: Mouser; Supplier Part Number 1: N/A; Packing: Reel; RoHS: N; Mounting Technology: Surface Mount; Code_JEDEC: MO-047-AB; ComponentLink1Description: Manufacturer URL; ComponentLink1URL: http://www.analog.com/en/index.html; ComponentLink2Description: Datasheet; ComponentLink2URL: http://www.analog.com/static/imported-files/data_sheets/AD7840.pdf; ComponentLink3Description: Package Specification; ComponentLink3URL: http://www.analog.com/static/imported-files/packages/PKG_PDF/PLCC(P)/P_28.pdf; ComponentLink4Description: Product URL; ComponentLink4URL: http://www.analog.com/en/digital-to-analog-converters/da-converters/ad7840/products/product.html
footprint P-28_N (Leaded Chip Carrier, 28-Leads, Body 11.5x11.5mm, Pitch 1.27mm, IPC Medium Density)
footprint P-28_L (Leaded Chip Carrier, 28-Leads, Body 11.5x11.5mm, Pitch 1.27mm, IPC High Density)
footprint P-28_M (Leaded Chip Carrier, 28-Leads, Body 11.5x11.5mm, Pitch 1.27mm, IPC Low Density)
pins: 1 NC "No Connect.", 2 ~{CS}/SERIAL (in) "Chip Select/Serial Input. When driven with normal logic levels, it is an active low logic input which is used in conjunction with W\R\ to load parallel data to the input latch. For applications where C\S\ is permanently low, (See Datasheet)", 3 ~{WR}/~{SYNC} (in) "Write/Frame Synchronization Input. In the parallel data mode, it is used in conjunction with C\S\ to load parallel data. In the serial mode of operation, this pin functions as a Frame Synchronization pulse with serial data (See Datasheet)", 4 D13/SDATA (in) "Data Bit 13(MSB)/Serial Data. When parallel data is selected, this pin is the D13 input. In serial mode, SDATA is the serial data input which is used in conjunction with S\Y\N\C\ and SCLK to transfer serial data to the (See Datasheet)", 5 D12/SCLK (in) "Data Bit 12/Serial Clock. When parallel data is selected, this pin is the D12 input. In the serial mode, it is the serial clock input. Serial data bits are latched on the falling edge of SCLK when S\Y\N\C\ is low", 6 D11/FORMAT (in) "Data Bit 11/Data Format. When parallel data is selected, this pin is the D11 input. In serial mode, a Logic 1 on this input indicates that the MSB is the first valid bit in the serial data stream. A Logic 0 indicates that (See Datasheet)", 7 D10/JUSTIFY (in) "Data Bit 10/Data Justification. When parallel data is selected, this pin is the D10 input. In serial mode, this input controls the serial data justification (see Table I).", 8 NC "No Connect.", 9 D9 (in) "Data Bit 9. Parallel data input.", 10 D8 (in) "Data Bit 8. Parallel data input.", 11 D7 (in) "Data Bit 7. Parallel data input.", 12 D6 (in) "Data Bit 6. Parallel data input.", 13 D5 (in) "Data Bit 5. Parallel data input.", 14 DGND (power) "Digital Ground. Ground reference for digital circuitry.", 15 NC "No Connect.", 16 D4 (in) "Data Bit 4. Parallel data input.", 17 D3 (in) "Data Bit 3. Parallel data input.", 18 D2 (in) "Data Bit 2. Parallel data input.", 19 D1 (in) "Data Bit 1. Parallel data input.", 20 D0 (in) "Data Bit 0 (LSB). Parallel data input.", 21 VDD (power) "Positive Supply, +5 V +/- 5%.", 22 NC "No Connect.", 23 AGND (power) "Analog Ground. Ground reference for DAC, reference and output buffer amplifier.", 24 VOUT (out) "Analog Output Voltage. This is the buffer amplifier output voltage. Bipolar output range (+/-3 V with REF IN = +3 V).", 25 VSS (power) "Negative Supply Voltage, -5 V +/- 5%.", 26 REF OUT (out) "Voltage Reference Output. The internal 3 V analog reference is provided at this pin. To operate the AD7840 with internal reference, REF OUT should be connected to REF IN. The external load capability of the reference is 500 (See Datasheet)", 27 REF IN (in) "Voltage Reference Input. The reference voltage for the DAC is applied to this pin. It is internally buffered before being applied to the DAC. The nominal reference voltage for correct operation of the AD7840 is 3 V.", 28 ~{LDAC} (in) "Load DAC. Logic Input. A new word is loaded into the DAC latch from the input latch on the falling edge of this signal (see Interface Logic Information section). The AD7840 should be powered-up with L\D\A\C\ high. For (See Datasheet)"

## AD7840KPZ
designator U?
Single 14-Bit LC2MOS Complete Digital-to-Analog Converter, 0 to +70 degC, P-28, Pb-Free, Tube; Generic Part Number: AD7840; Manufacturer: Analog Devices; PartNumber: AD7840KPZ; # DAC Outputs: 1; Max V+: 5.25V; Op Pwr Diss: 110mW; Resolution (Bits): 14; Settling Time: 2.5µs; Single Supply: No; DatasheetVersion: Rev.B; PackageVersion: 042508-A; PackageReference: P-28; PackageDescription: 28-Lead Plastic Leaded Chip Carrier [PLCC]; Supplier 1: Digi-Key; Supplier Part Number 1: AD7840KPZ-ND; Supplier 2: Mouser; Supplier Part Number 2: 584-AD7840KPZ; Packing: Tube; RoHS: Y; Mounting Technology: Surface Mount; Code_JEDEC: MO-047-AB; ComponentLink1Description: Manufacturer URL; ComponentLink1URL: http://www.analog.com/en/index.html; ComponentLink2Description: Datasheet; ComponentLink2URL: http://www.analog.com/static/imported-files/data_sheets/AD7840.pdf; ComponentLink3Description: Package Specification; ComponentLink3URL: http://www.analog.com/static/imported-files/packages/PKG_PDF/PLCC(P)/P_28.pdf; ComponentLink4Description: Product URL; ComponentLink4URL: http://www.analog.com/en/digital-to-analog-converters/da-converters/ad7840/products/product.html
footprint P-28_N (Leaded Chip Carrier, 28-Leads, Body 11.5x11.5mm, Pitch 1.27mm, IPC Medium Density)
footprint P-28_L (Leaded Chip Carrier, 28-Leads, Body 11.5x11.5mm, Pitch 1.27mm, IPC High Density)
footprint P-28_M (Leaded Chip Carrier, 28-Leads, Body 11.5x11.5mm, Pitch 1.27mm, IPC Low Density)
pins: 1 NC "No Connect.", 2 ~{CS}/SERIAL (in) "Chip Select/Serial Input. When driven with normal logic levels, it is an active low logic input which is used in conjunction with W\R\ to load parallel data to the input latch. For applications where C\S\ is permanently low, (See Datasheet)", 3 ~{WR}/~{SYNC} (in) "Write/Frame Synchronization Input. In the parallel data mode, it is used in conjunction with C\S\ to load parallel data. In the serial mode of operation, this pin functions as a Frame Synchronization pulse with serial data (See Datasheet)", 4 D13/SDATA (in) "Data Bit 13(MSB)/Serial Data. When parallel data is selected, this pin is the D13 input. In serial mode, SDATA is the serial data input which is used in conjunction with S\Y\N\C\ and SCLK to transfer serial data to the (See Datasheet)", 5 D12/SCLK (in) "Data Bit 12/Serial Clock. When parallel data is selected, this pin is the D12 input. In the serial mode, it is the serial clock input. Serial data bits are latched on the falling edge of SCLK when S\Y\N\C\ is low", 6 D11/FORMAT (in) "Data Bit 11/Data Format. When parallel data is selected, this pin is the D11 input. In serial mode, a Logic 1 on this input indicates that the MSB is the first valid bit in the serial data stream. A Logic 0 indicates that (See Datasheet)", 7 D10/JUSTIFY (in) "Data Bit 10/Data Justification. When parallel data is selected, this pin is the D10 input. In serial mode, this input controls the serial data justification (see Table I).", 8 NC "No Connect.", 9 D9 (in) "Data Bit 9. Parallel data input.", 10 D8 (in) "Data Bit 8. Parallel data input.", 11 D7 (in) "Data Bit 7. Parallel data input.", 12 D6 (in) "Data Bit 6. Parallel data input.", 13 D5 (in) "Data Bit 5. Parallel data input.", 14 DGND (power) "Digital Ground. Ground reference for digital circuitry.", 15 NC "No Connect.", 16 D4 (in) "Data Bit 4. Parallel data input.", 17 D3 (in) "Data Bit 3. Parallel data input.", 18 D2 (in) "Data Bit 2. Parallel data input.", 19 D1 (in) "Data Bit 1. Parallel data input.", 20 D0 (in) "Data Bit 0 (LSB). Parallel data input.", 21 VDD (power) "Positive Supply, +5 V +/- 5%.", 22 NC "No Connect.", 23 AGND (power) "Analog Ground. Ground reference for DAC, reference and output buffer amplifier.", 24 VOUT (out) "Analog Output Voltage. This is the buffer amplifier output voltage. Bipolar output range (+/-3 V with REF IN = +3 V).", 25 VSS (power) "Negative Supply Voltage, -5 V +/- 5%.", 26 REF OUT (out) "Voltage Reference Output. The internal 3 V analog reference is provided at this pin. To operate the AD7840 with internal reference, REF OUT should be connected to REF IN. The external load capability of the reference is 500 (See Datasheet)", 27 REF IN (in) "Voltage Reference Input. The reference voltage for the DAC is applied to this pin. It is internally buffered before being applied to the DAC. The nominal reference voltage for correct operation of the AD7840 is 3 V.", 28 ~{LDAC} (in) "Load DAC. Logic Input. A new word is loaded into the DAC latch from the input latch on the falling edge of this signal (see Interface Logic Information section). The AD7840 should be powered-up with L\D\A\C\ high. For (See Datasheet)"